# Altium integrated library SparkFun-IC-Logic.IntLib: 20 symbols
Pins are listed as number, name and electrical type; pins without a type are passive.

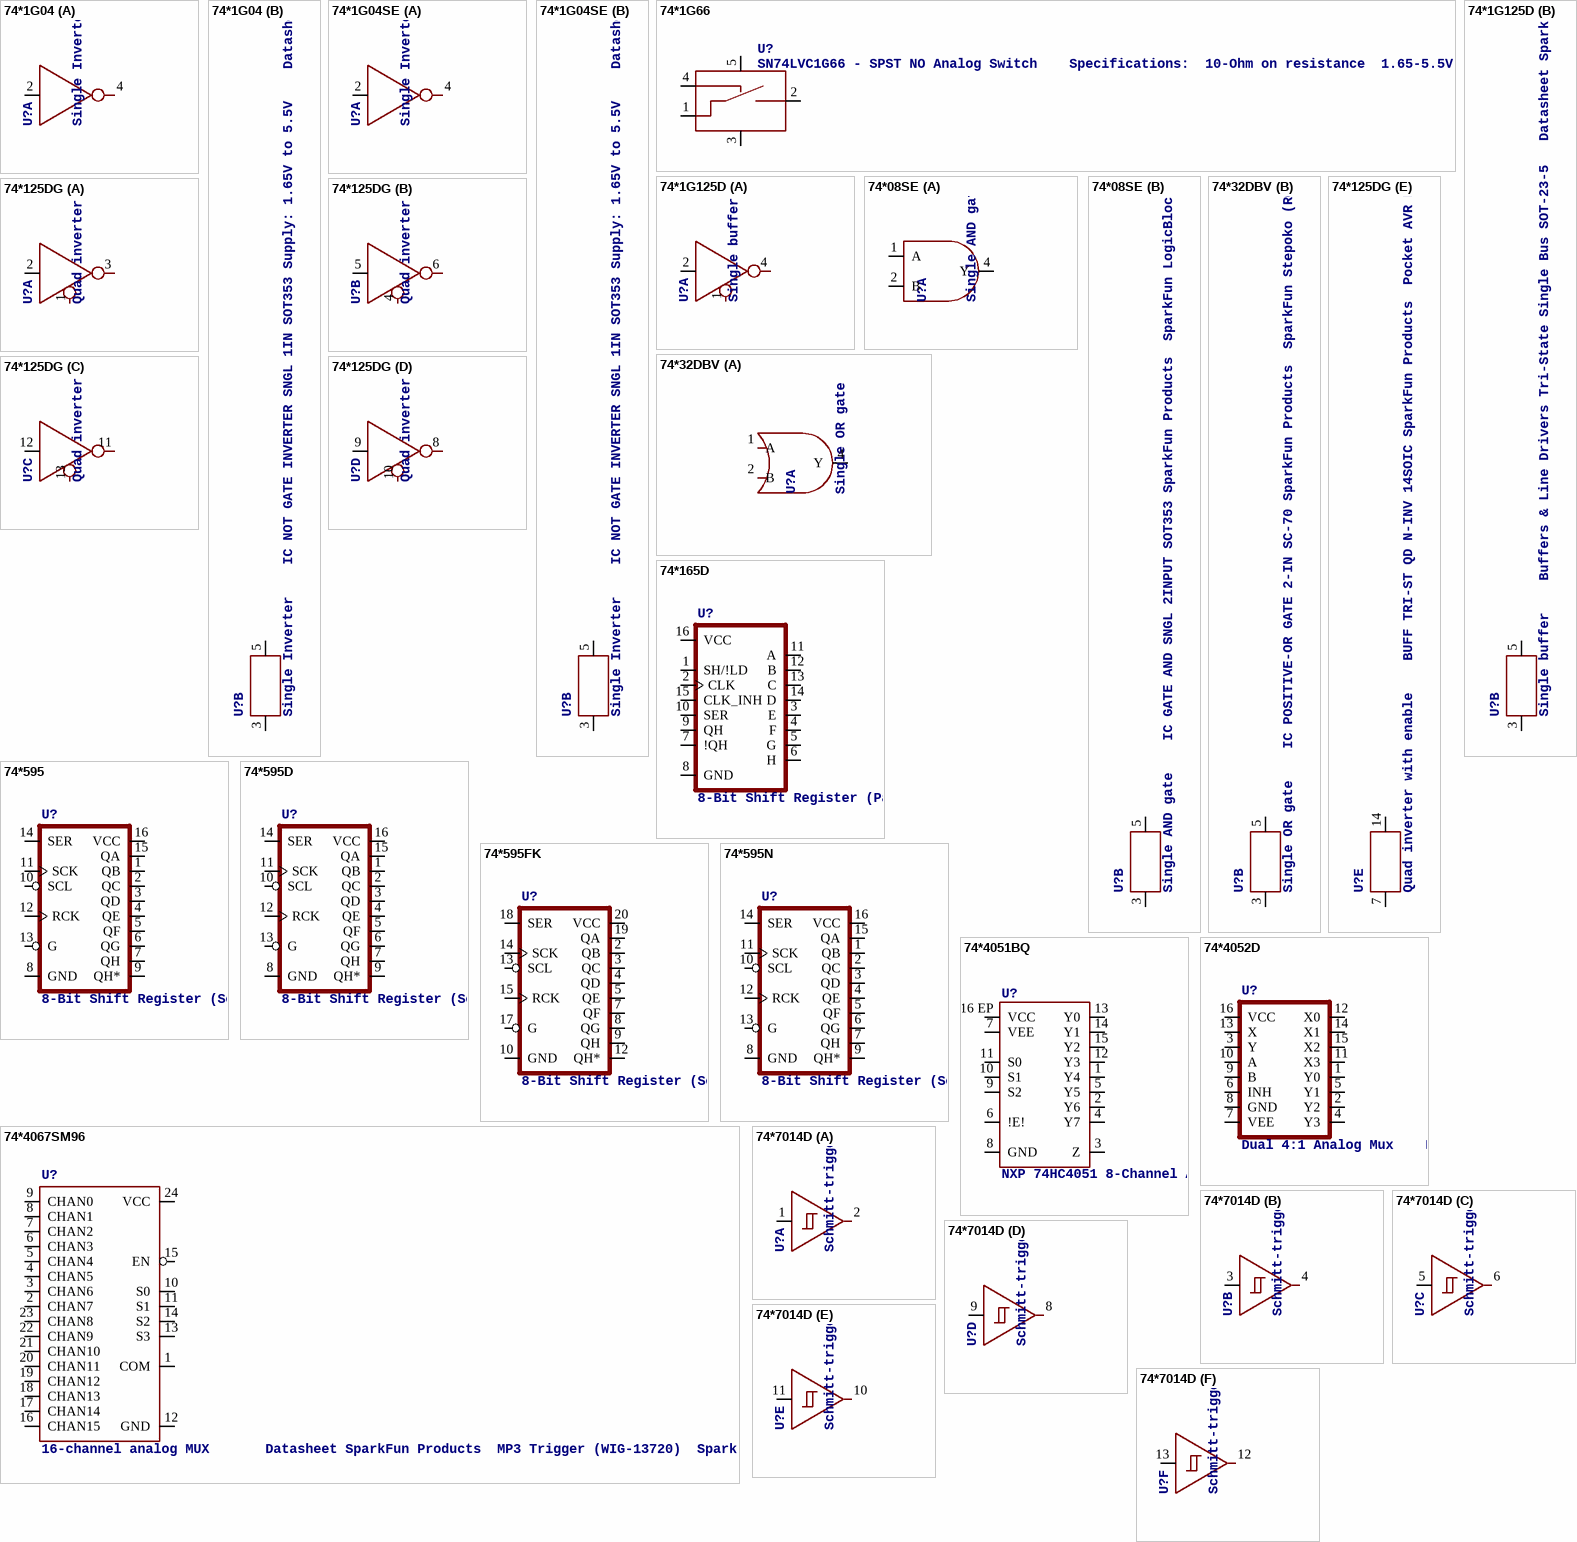
[diagram p0: symbols 74*1G04 to 74*7014D]

## 74*1G04
designator U?, comment Single Inverter    IC NOT GATE INVERTER SNGL 1IN SOT353 Supply: 1.65V to 5.5V    Datasheet SparkFun Products  SparkFun Stepoko (ROB-13899)  SparkFun CryptoShield (DEV-13183)  SparkFun LogicBlocks Kit (KIT-11006)  SparkFun ArduMoto (DEV-09815)
PROD_ID: COMP-08268
footprint SOT353
part A pins: 2 A, 4 Y
part B pins: 3 P$V-, 5 P$V+

## 74*1G04SE
designator U?, comment Single Inverter    IC NOT GATE INVERTER SNGL 1IN SOT353 Supply: 1.65V to 5.5V    Datasheet SparkFun Products  SparkFun Stepoko (ROB-13899)  SparkFun CryptoShield (DEV-13183)  SparkFun LogicBlocks Kit (KIT-11006)  SparkFun ArduMoto (DEV-09815)
PROD_ID: IC-10843
footprint SOT353
part A pins: 2 A, 4 Y
part B pins: 3 P$V-, 5 P$V+

## 74*1G66
designator U?, comment SN74LVC1G66 - SPST NO Analog Switch    Specifications:  10-Ohm on resistance  1.65-5.5V       TI Datasheet   Example device(s):  Spectacle
PROD_ID: IC-13549
footprint SOT23-5
pins: 1 A_IN, 2 A_OUT, 3 VSS, 4 CTRL_IN, 5 VCC

## 74*1G125D
designator U?, comment Single buffer    Buffers & Line Drivers Tri-State Single Bus SOT-23-5   Datasheet SparkFun Products  SparkFun SAMD21 Mini Breakout (DEV-13664)  SparkFun SAMD21 Dev Breakout (DEV-13672)  SparkFun MIDI Shield (DEV-12898)  SparkFun WiFi Shield - CC3000 (DEV-12071)
PROD_ID: IC-11920
footprint SOT23-5
part A pins: 1 !EN, 2 A, 4 Y
part B pins: 3 P$V-, 5 P$V+

## 74*08SE
designator U?, comment Single AND gate    IC GATE AND SNGL 2INPUT SOT353 SparkFun Products  SparkFun LogicBlocks Kit (KIT-11006)  SparkFun RedBot Mainboard (ROB-12097)
PROD_ID: IC-10841
footprint SOT23-5
part A pins: 1 A, 2 B, 4 Y
part B pins: 3 P$V-, 5 P$V+

## 74*32DBV
designator U?, comment Single OR gate    IC POSITIVE-OR GATE 2-IN SC-70 SparkFun Products  SparkFun Stepoko (ROB-13899)  SparkFun LogicBlocks Kit (KIT-11006)
PROD_ID: IC-10842
footprint SOT23-5
part A pins: 1 A, 2 B, 4 Y
part B pins: 3 P$V-, 5 P$V+

## 74*125DG
designator U?, comment Quad inverter with enable    BUFF TRI-ST QD N-INV 14SOIC SparkFun Products  Pocket AVR Programmer (PGM-09825)  SparkFun Line Follower Array (SEN-13582)
PROD_ID: IC-08880
footprint SO14
part A pins: 1 !EN, 2 A, 3 Y
part B pins: 4 !EN, 5 A, 6 Y
part C pins: 11 Y, 12 A, 13 !EN
part D pins: 8 Y, 9 A, 10 !EN
part E pins: 7 P$V-, 14 P$V+

## 74*165D
designator U?, comment 8-Bit Shift Register (Parallel to Serial)       Datasheet SparkFun Products  SparkFun Shift-In Breakout - SN74HC165 (BOB-11733)
PROD_ID: IC-11325
footprint SO16
pins: 1 SH/!LD, 2 CLK, 3 E (hiz), 4 F (hiz), 5 G (hiz), 6 H (hiz), 7 !QH, 8 GND (power), 9 QH (hiz), 10 SER, 11 A (hiz), 12 B (hiz), 13 C (hiz), 14 D (hiz), 15 CLK_INH, 16 VCC (power)

## 74*595
designator U?, comment 8-Bit Shift Register (Serial to Parallel)       Datasheet SparkFun Products  SparkFun Shift Register Breakout - 74HC595 (BOB-10680)
footprint TSSOP16
pins: 1 QB (hiz), 2 QC (hiz), 3 QD (hiz), 4 QE (hiz), 5 QF (hiz), 6 QG (hiz), 7 QH (hiz), 8 GND (power), 9 QH* (hiz), 10 SCL, 11 SCK, 12 RCK, 13 G, 14 SER, 15 QA (hiz), 16 VCC (power)

## 74*595D
designator U?, comment 8-Bit Shift Register (Serial to Parallel)       Datasheet SparkFun Products  SparkFun Shift Register Breakout - 74HC595 (BOB-10680)
PROD_ID: IC-07875
footprint SO16
pins: 1 QB (hiz), 2 QC (hiz), 3 QD (hiz), 4 QE (hiz), 5 QF (hiz), 6 QG (hiz), 7 QH (hiz), 8 GND (power), 9 QH* (hiz), 10 SCL, 11 SCK, 12 RCK, 13 G, 14 SER, 15 QA (hiz), 16 VCC (power)

## 74*595FK
designator U?, comment 8-Bit Shift Register (Serial to Parallel)       Datasheet SparkFun Products  SparkFun Shift Register Breakout - 74HC595 (BOB-10680)
footprint LCC20
pins: 2 QB (hiz), 3 QC (hiz), 4 QD (hiz), 5 QE (hiz), 7 QF (hiz), 8 QG (hiz), 9 QH (hiz), 10 GND (power), 12 QH* (hiz), 13 SCL, 14 SCK, 15 RCK, 17 G, 18 SER, 19 QA (hiz), 20 VCC (power)

## 74*595N
designator U?, comment 8-Bit Shift Register (Serial to Parallel)       Datasheet SparkFun Products  SparkFun Shift Register Breakout - 74HC595 (BOB-10680)
PROD_ID: IC-13123
footprint DIP16
pins: 1 QB (hiz), 2 QC (hiz), 3 QD (hiz), 4 QE (hiz), 5 QF (hiz), 6 QG (hiz), 7 QH (hiz), 8 GND (power), 9 QH* (hiz), 10 SCL, 11 SCK, 12 RCK, 13 G, 14 SER, 15 QA (hiz), 16 VCC (power)

## 74*4051BQ
designator U?, comment NXP 74HC4051 8-Channel Analog Multiplexer/Demultiplexer    The 74HC4051; 74HCT4051 is a single-pole octal-throw analog switch (SP8T) suitable for use in analog or digital 8:1 multiplexer/demultiplexer applications. The switch features three digital select inputs (S0, S1 and S2), eight independent inputs/outputs (Yn), a common input/output (Z) and a digital enable input (E). When E is HIGH, the switches are turned off. Inputs include clamp diodes. This enables the use of current limiting resistors to interface inputs to voltages in excess of VCC.   Datasheet
PROD_ID: IC-13334
footprint DHVQFN-16-2.5X3.5MM
pins: 1 Y4, 2 Y6, 3 Z, 4 Y7, 5 Y5, 6 !E!, 7 VEE, 8 GND, 9 S2, 10 S1, 11 S0, 12 Y3, 13 Y0, 14 Y1, 15 Y2, 16 EP VCC

## 74*4052D
designator U?, comment Dual 4:1 Analog Mux    Dual four-channel analog MULTIPLEXER / DEMULTIPLEXER SparkFun Products  SparkFun Vernier Interface Shield (DEV-12858)
PROD_ID: IC-13103
footprint SO16
pins: 1 Y0, 2 Y2, 3 Y, 4 Y3, 5 Y1, 6 INH, 7 VEE (power), 8 GND (power), 9 B, 10 A, 11 X3, 12 X0, 13 X, 14 X1, 15 X2, 16 VCC (power)

## 74*4067SM96
designator U?, comment 16-channel analog MUX       Datasheet SparkFun Products  MP3 Trigger (WIG-13720)  SparkFun Analog/Digital MUX Breakout - CD74HC4067 (BOB-09056)
PROD_ID: IC-08252
footprint SSOP24
pins: 1 COM, 2 CHAN7, 3 CHAN6, 4 CHAN5, 5 CHAN4, 6 CHAN3, 7 CHAN2, 8 CHAN1, 9 CHAN0, 10 S0, 11 S1, 12 GND, 13 S3, 14 S2, 15 EN, 16 CHAN15, 17 CHAN14, 18 CHAN13, 19 CHAN12, 20 CHAN11, 21 CHAN10, 22 CHAN9, 23 CHAN8, 24 VCC

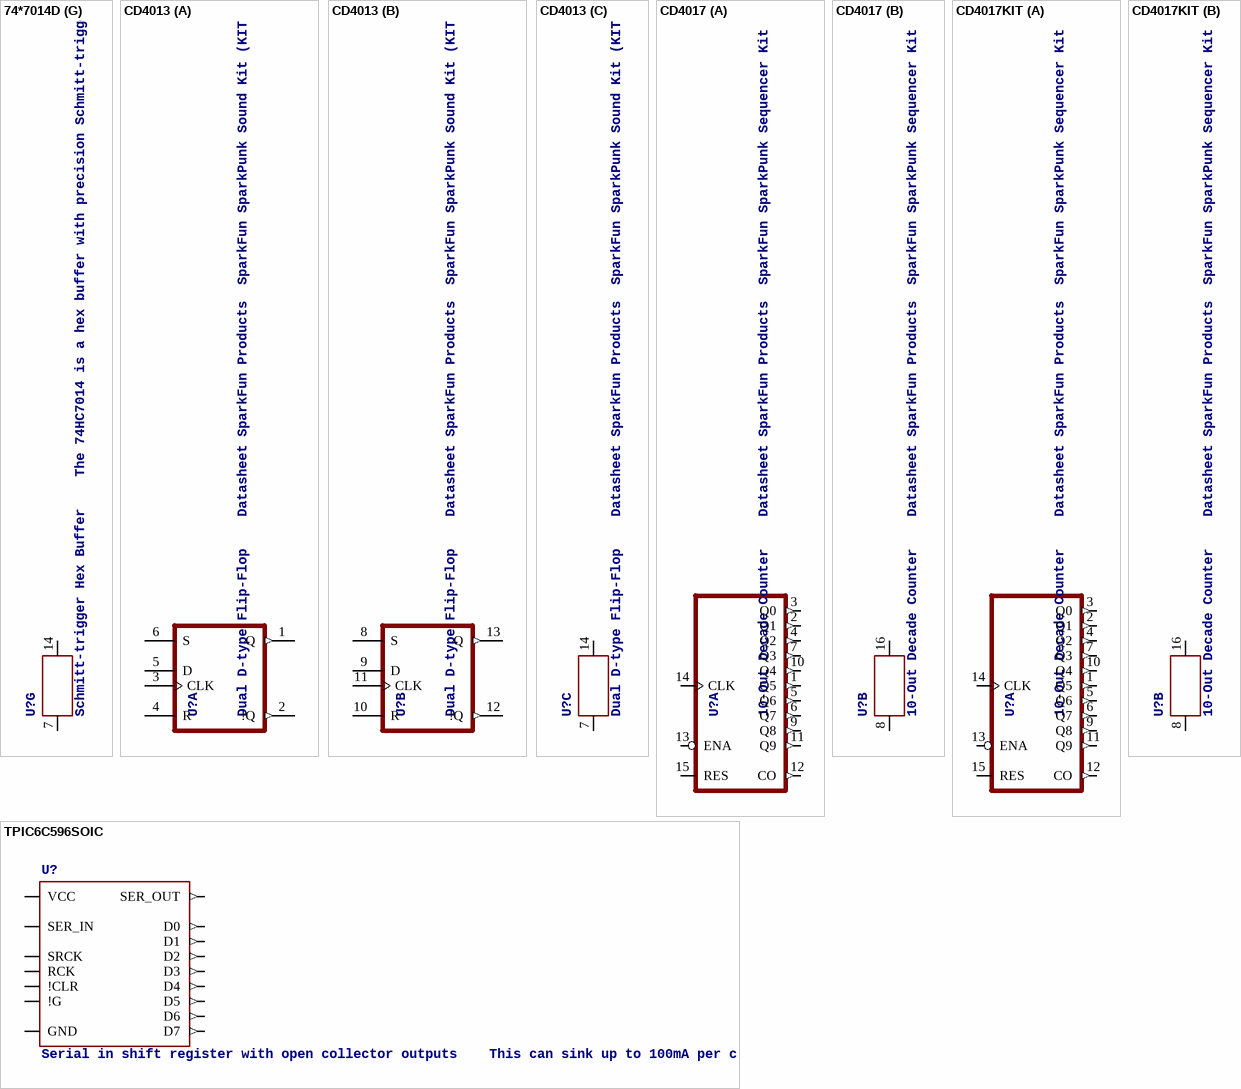
[diagram p1: symbols 74*7014D to TPIC6C596SOIC]

## 74*7014D
designator U?, comment Schmitt-trigger Hex Buffer    The 74HC7014 is a hex buffer with precision Schmitt-trigger inputs. The precisely defined trigger levels are lying in a window between (0.55 x VCC) and (0.65 x VCC). It makes the circuit suitable to operate in a highly noisy environment. Input shorts are allowed to -1.5 V and +16 V without disturbing other channels. Inputs include clamp diodes that enable the use of current limiting resistors to interface inputs to voltages in excess of VCC. Schmitt trigger inputs transform slowly changing input signals into sharply defined jitter-free output signals.  SparkFun Products  SparkFun Stepoko (ROB-13899)
PROD_ID: IC-12527
footprint SO14
part A pins: 1 A, 2 Y
part B pins: 3 A, 4 Y
part C pins: 5 A, 6 Y
part D pins: 8 Y, 9 A
part E pins: 10 Y, 11 A
part F pins: 12 Y, 13 A
part G pins: 7 P$V-, 14 P$V+

## CD4013
designator U?, comment Dual D-type Flip-Flop    Datasheet SparkFun Products  SparkFun SparkPunk Sound Kit (KIT-11177)  SparkFun SparkPunk Sequencer Kit (KIT-12707)
PROD_ID: IC-11896
footprint DIP14-KIT
part A pins: 1 Q (out), 2 !Q (out), 3 CLK, 4 R, 5 D, 6 S
part B pins: 8 S, 9 D, 10 R, 11 CLK, 12 !Q (out), 13 Q (out)
part C pins: 7 P$V-, 14 P$V+

## CD4017
designator U?, comment 10-Out Decade Counter    Datasheet SparkFun Products  SparkFun SparkPunk Sequencer Kit (KIT-12707)
PROD_ID: IC-11929
footprint DIP16
part A pins: 1 Q5 (out), 2 Q1 (out), 3 Q0 (out), 4 Q2 (out), 5 Q6 (out), 6 Q7 (out), 7 Q3 (out), 9 Q8 (out), 10 Q4 (out), 11 Q9 (out), 12 CO (out), 13 ENA, 14 CLK, 15 RES
part B pins: 8 P$V-, 16 P$V+

## CD4017KIT
designator U?, comment 10-Out Decade Counter    Datasheet SparkFun Products  SparkFun SparkPunk Sequencer Kit (KIT-12707)
PROD_ID: IC-11929
footprint DIP16-KIT
part A pins: 1 Q5 (out), 2 Q1 (out), 3 Q0 (out), 4 Q2 (out), 5 Q6 (out), 6 Q7 (out), 7 Q3 (out), 9 Q8 (out), 10 Q4 (out), 11 Q9 (out), 12 CO (out), 13 ENA, 14 CLK, 15 RES
part B pins: 8 P$V-, 16 P$V+

## TPIC6C596SOIC
designator U?, comment Serial in shift register with open collector outputs    This can sink up to 100mA per channel   Datasheet SparkFun Products  SparkFun Large Digit Driver (WIG-13279)
PROD_ID: IC-12522
footprint SO16
pins: 1 VCC (power), 2 SER_IN, 3 D0 (out), 4 D1 (out), 5 D2 (out), 6 D3 (out), 7 !CLR, 8 !G, 9 SER_OUT (out), 10 RCK, 11 D4 (out), 12 D5 (out), 13 D6 (out), 14 D7 (out), 15 SRCK, 16 GND (power)